# EAGLE library part SL-SW-2P-3T (library sw)
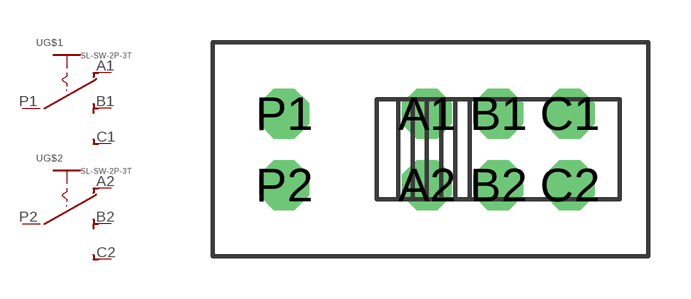
[diagram p0: symbol with the pads of SLSW-2P3T; footprint SLSW-2P3T]

Designator prefix -; gates G$1=SW-1P3T G$2=SW-1P3T

## SL-SW-2P-3T  [SLSW-2P3T]
A1  G$1:A  pas
A2  G$2:A  pas
B1  G$1:B  pas
B2  G$2:B  pas
C1  G$1:C  pas
C2  G$2:C  pas
P1  G$1:P  pas
P2  G$2:P  pas

## Footprint SLSW-2P3T (pad centres in mm)
drill 1.1 pad 1.778 octagon: A1 2.54,1.27; A2 2.54,-1.27; B1 5.08,1.27; B2 5.08,-1.27; C1 7.62,1.27; C2 7.62,-1.27; P1 -2.54,1.27; P2 -2.54,-1.27